# Altium footprint library BATT.PcbLib: 5 footprints
Each footprint in its own frame and in the unit in brackets; x right, y up, seen from the top. Pads: shape width x height; smd on the part's side, far side on the other; paste and mask are expansions set on the pad; w line width, h text height; cw(c..) or ccw(c..) is an arc to the next point about the centre after c.
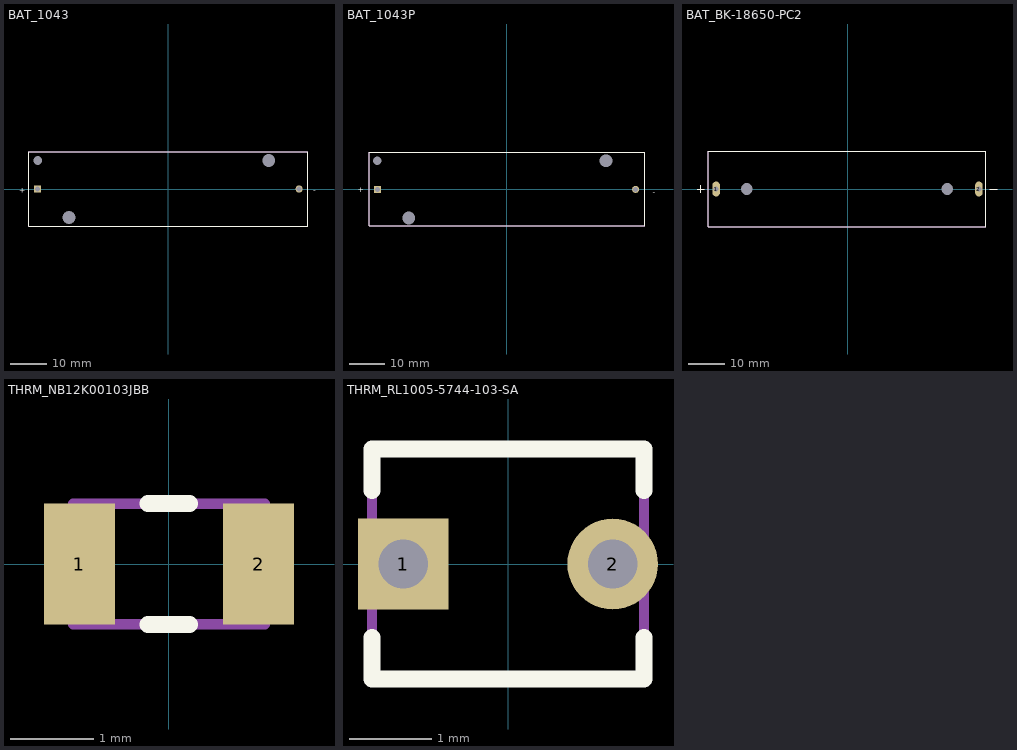
[diagram p0: the footprints below, top view; thin cyan lines are the x and y axes]

## BAT_1043 [mm]
height 14.86
pads (5):
  rect 1.97x1.97 hole 1.32 unplated mask+0.076: 1(-36.11,0)
  round 1.97 hole 1.32 unplated mask+0.076: 2(36.11,0)
  rect 0x0 hole 2.39 unplated mask+0.076: MH(-36.11,7.87)
  rect 0x0 hole 3.55 unplated mask+0.076: MH(-27.47,-7.87) MH(27.73,7.87)
Top Overlay:
  lines w0.203: -38.525,-10.325 38.525,-10.325 38.525,10.325 -38.525,10.325 -38.525,-10.325
  text "+" at -41.254,-1.04 h1.52
  text "-" at 40.084,-1.011 h1.52
Mechanical 1:
  text "'.Designator'" at 0,0.287 h1.52
Mechanical 15:
  lines w0.127: -38.525,-10.325 38.525,-10.325 38.525,10.325 -38.525,10.325 -38.525,-10.325
  text "+" at -41.254,-1.04 h1.52
  text "-" at 40.084,-1.011 h1.52
3D body "keystone-PN1043.STEP": height 15.06, standoff -3.36, extent -38.492,-10.354 38.562,10.296

## BAT_1043P [mm]
height 14.86
pads (5):
  rect 1.97x1.97 hole 1.32 unplated mask+0.076: 1(-36.21,-0.13)
  round 1.97 hole 1.32 unplated mask+0.076: 2(36.01,-0.13)
  rect 0x0 hole 2.39 unplated mask+0.076: MH(-36.21,7.87)
  rect 0x0 hole 3.55 unplated mask+0.076: MH(-27.47,-8.13) MH(27.73,7.87)
Top Overlay:
  lines w0.203: -38.525,-10.325 38.525,-10.325 38.525,10.325 -38.525,10.325 -38.525,-10.325
  text "-" at 40.754,-1.547 h1.52
  text "+" at -41.656,-0.906 h1.52
Mechanical 1:
  text "'.Designator'" at 0,0.287 h1.52
Mechanical 15:
  lines w0.127: -38.525,-10.325 38.525,-10.325 38.525,10.325 -38.525,10.325 -38.525,-10.325
  text "+" at -41.656,-0.906 h1.52
  text "-" at 40.754,-1.547 h1.52
3D body "keystone-PN1043P.STEP": height 15.71, standoff -2.76, extent -38.527,-10.318 38.527,10.332

## BAT_BK-18650-PC2 [mm]
pads (4):
  oval 2.07x4.14 hole 1.38 square: 1(-36.45,0) 2(36.45,0)
  round 0 hole 3.2 unplated: MH1(-27.955,0) MH2(27.66,0)
Top Overlay:
  lines w0.127: -41.78,0 -39.78,0 ; -40.78,-1 -40.78,1 ; 39.48,0 41.48,0
  lines w0.203: -38.63,-10.49 -38.63,10.49 38.33,10.49 38.33,-10.49 -38.63,-10.49
Mechanical 1:
  text "'.Designator'" at 0,0.42 h0.64
Mechanical 13:
  lines w0.127: -41.78,0 -39.78,0 ; -40.78,-1 -40.78,1 ; 39.48,0 41.48,0 ; -38.63,-10.49 -38.63,10.49 38.33,10.49 38.33,-10.49 -38.63,-10.49
Mechanical 15:
  lines w0.127: -41.78,0 -39.78,0 -41.78,0 ; -40.78,-1 -40.78,1 -40.78,-1 ; -38.63,-10.49 -38.63,10.49 38.33,10.49 38.33,-10.49 -38.63,-10.49 ; 39.48,0 41.48,0 39.48,0
3D body "BK-18650-PC2 (1).STEP": height 21.51, standoff -3.2, extent -38.63,-10.499 38.33,10.481

## THRM_NB12K00103JBB [mm] "Chip Capacitor, 2-Leads, Body 2.00x1.25mm, IPC Medium Density"
height 1.3
pads (2):
  rect 0.85x1.45 smd: 1(-1.075,0) 2(1.075,0)
Top Overlay:
  lines w0.203: -0.254,-0.725 0.246,-0.725 ; -0.254,0.725 0.246,0.725
Mechanical 1:
  text "'.Designator'" at 0,0.12 h0.64
Mechanical 15:
  lines w0.127: -1.15,-0.725 1.15,-0.725 1.15,0.725 -1.15,0.725 -1.15,-0.725
3D body "CAPC2012X13N.step": height 1.3, standoff 0, extent -1.15,-0.725 1.15,0.725

## THRM_RL1005-5744-103-SA [mm]
height 38
pads (2):
  rect 1.1x1.1 hole 0.6 mask+0.076: 1(-1.27,0)
  round 1.1 hole 0.6 mask+0.076: 2(1.27,0)
Top Overlay:
  lines w0.203: -1.65,-1.394 -1.65,-0.889 ; -1.65,0.889 -1.65,1.395 1.65,1.395 1.65,0.889 ; -1.649,-1.395 1.65,-1.395 1.65,-0.889
Mechanical 1:
  text "'.Designator'" at 0,0.12 h0.64
Mechanical 15:
  lines w0.127: -1.65,-1.394 -1.65,1.395 1.65,1.395 1.65,-1.395 -1.649,-1.395